# Altium footprint library PcbLib1.PcbLib: 31 footprints (part 1 of 2)
Each footprint in its own frame and in the unit in brackets; x right, y up, seen from the top. Pads: shape width x height; smd on the part's side, far side on the other; paste and mask are expansions set on the pad; w line width, h text height; cw(c..) or ccw(c..) is an arc to the next point about the centre after c.
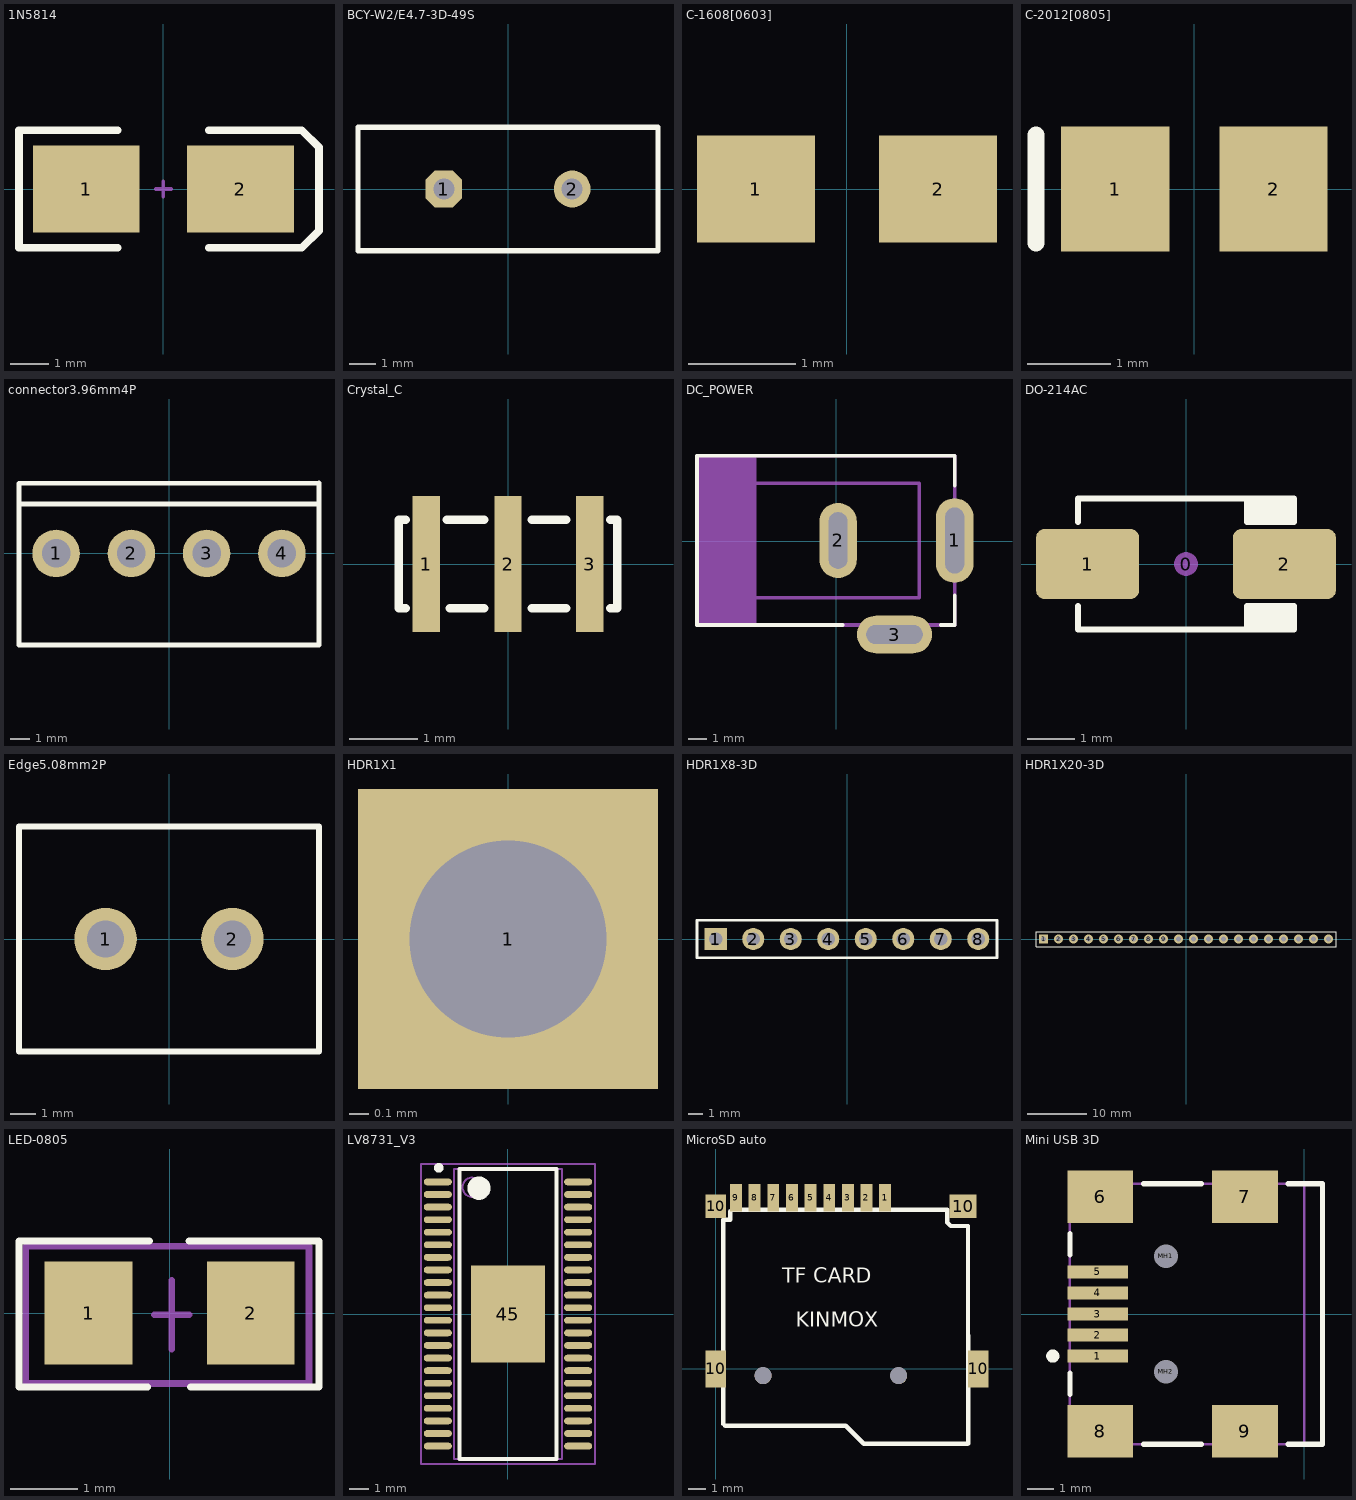
[diagram p0: the footprints below, top view; thin cyan lines are the x and y axes]

## 1N5814 [mm] "DO-214-AA/SMB; 2 C-Bend Leads; Body 5.3 x 3.6 mm, inc. leads (LxW)"
height 2.54
pads (2):
  rect 2.808x2.3 smd: 1(-2.032,0) 2(2.032,0)
Top Overlay:
  lines w0.2: -1.2,-1.55 -3.8,-1.55 -3.8,1.55 -1.2,1.55 ; 1.2,-1.55 3.65,-1.55 4.1,-1.1 4.1,1.1 3.65,1.55 1.2,1.55
Mechanical 1:
  lines w0.1: -0.2,0 0.2,0 ; 0,-0.2 0,0.2

## BCY-W2/E4.7-3D-49S [mm] "Quartz Crystal, Thru-Hole; 2 Leads; Body 11.35 x 4.65 x 13.46 mm (LxWxH max)"
height 13.46
pads (2):
  oct 1.4x1.4 hole 0.8: 1(-2.44,0)
  round 1.4 hole 0.8: 2(2.44,0)
Top Overlay:
  lines w0.2: -5.7,-2.35 -5.7,2.35 5.7,2.35 5.7,-2.35 -5.7,-2.35
3D body: height 3.6, standoff -3, extent -5.461,-2.286 5.519,2.205

## C-1608[0603] [mm] "Chip Capacitor; Body 1.6 x 0.8 mm (LxW typ)"
height 1.35
pads (2):
  rect 1.1x1 smd: 1(-0.85,0) 2(0.85,0)
3D body: height 0.29, standoff -0.01, extent -0.8,-0.419 0.8,0.381

## C-2012[0805] [mm] "Chip Capacitor; Body 2.0 x 1.2 mm (LxW typ)"
height 1.1
pads (2):
  rect 1.3x1.5 smd: 1(-0.95,0) 2(0.95,0)
Top Overlay:
  lines w0.2: -1.9,-0.65 -1.9,0.65
3D body: height 0.78, standoff 0, extent -1,-0.635 1,0.615

## connector3.96mm4P [mm] "白色连接器,wire to board 3.96mm间距4P"
height 14.6
pads (4):
  round 2.5 hole 1.5: 1(-5.94,0) 2(-1.98,0) 3(1.98,0) 4(5.94,0)
Top Overlay:
  lines w0.254: -7.851,2.609 7.737,2.609 ; 7.859,3.691 -7.89,3.691 -7.89,-4.811 7.89,-4.811 7.89,3.7

## Crystal_C [mm] "含电容晶振，村田 3."
height 0.7
pads (3):
  rect 0.4x2 smd: 1(-1.2,0) 2(0,0) 3(1.2,0)
Top Overlay:
  lines w0.127: -1.5,-0.65 -1.6,-0.65 -1.6,0.65 -1.5,0.65 ; -0.9,0.65 -0.35,0.65 ; -0.85,-0.65 -0.35,-0.65 ; 0.35,-0.65 0.85,-0.65 ; 0.35,0.65 0.85,0.65 ; 1.5,-0.65 1.6,-0.65 1.6,0.65 1.5,0.65
3D body: height 0.7, standoff 0, extent -1.6,-0.635 1.6,0.665

## DC_POWER [mm]
pads (3):
  oval 2x4.5 hole 1 slot 3.5 at 90 deg: 1(6.3,0.036)
  oval 2x4 hole 1 slot 3 at 90 deg: 2(0.1,0.036)
  oval 4x2 hole 1 slot 3 at 0 deg: 3(3.1,-4.964)
Top Overlay:
  lines w0.2: 0.347,-4.464 -7.4,-4.464 -7.4,4.536 6.3,4.536 6.3,2.953 ; 5.554,-4.464 6.3,-4.464 6.3,-2.88
Mechanical 7:
  rectangle: -7.402,-4.464 -4.227,4.536
  lines w0.2: -7.4,-3.012 4.411,-3.012 4.411,3.084 -7.4,3.084 ; 0.1,-0.964 0.1,1.036 ; 2.1,-4.964 4.1,-4.964 ; 6.3,-1.164 6.3,1.236 ; -7.4,-4.464 -7.4,4.536 6.3,4.536 6.3,-4.464 5.3,-4.464 -7.4,-4.464
3D body: height 11, standoff -3.5, extent -7.665,-5.171 6.835,4.329

## DO-214AC [mm] "JEDEC DO214 variation AC. SMA"
height 2.5
pads (3):
  round 0.508 on Mech15: 0(0,0)
  rrect25% 2.2x1.5 smd: 1(-2.1,0) 2(2.1,0)
Top Overlay:
  rectangle: 1.3,-1.4 2.3,-0.9
  rectangle: 1.3,0.9 2.3,1.4
  lines w0.127: -2.3,-0.9 -2.3,-1.4 2.3,-1.4 2.3,-0.9 1.3,-0.9 1.3,-1.4 ; -2.3,0.9 -2.3,1.4 2.3,1.4 2.3,0.9 1.3,0.9 ; 1.3,0.911 1.3,1.4
3D body: height 2.42, standoff 0.02, extent -2.6,-1.3 2.6,1.3

## Edge5.08mm2P [mm] "绿色接线端子5.0"
height 8
pads (2):
  round 2.5 hole 1.5: 1(-2.54,0) 2(2.54,0)
Top Overlay:
  lines w0.254: -6,-4.5 -6,4.5 6,4.5 6,-4.5 -6,-4.5

## HDR1X1 [mil]
pads (1):
  rect 60x60 hole 39.37: 1(0,0)

## HDR1X8-3D [mm] "Connector; Header; 8 Position"
pads (8):
  rect 1.5x1.5 hole 0.9: 1(-8.89,0)
  round 1.5 hole 0.9: 2(-6.35,0) 3(-3.81,0) 4(-1.27,0) 5(1.27,0) 6(3.81,0) 7(6.35,0) 8(8.89,0)
Top Overlay:
  lines w0.2: -10.16,-1.27 10.16,-1.27 10.16,1.27 -10.16,1.27 -10.16,-1.27
3D body: height 8.6, standoff -2.94, extent -10.135,-1.27 10.185,1.27

## HDR1X20-3D [mm] "Connector; Header; 20 Position"
pads (20):
  rect 1.5x1.5 hole 0.9: 1(-24.13,0)
  round 1.5 hole 0.9: 2(-21.59,0) 3(-19.05,0) 4(-16.51,0) 5(-13.97,0) 6(-11.43,0) 7(-8.89,0) 8(-6.35,0) 9(-3.81,0) 10(-1.27,0) 11(1.27,0) 12(3.81,0) 13(6.35,0) 14(8.89,0) 15(11.43,0) 16(13.97,0) 17(16.51,0) 18(19.05,0) 19(21.59,0) 20(24.13,0)
Top Overlay:
  lines w0.2: -25.4,-1.27 25.4,-1.27 25.4,1.27 -23.495,1.27 -25.4,1.27 -25.4,-1.27
3D body: height 8.6, standoff -2.94, extent -25.4,-1.27 25.4,1.27

## LED-0805 [mm]
pads (2):
  rect 1.3x1.524 smd: 1(-1.2,0) 2(1.2,0)
Top Overlay:
  lines w0.102: -0.324,-1.092 -2.229,-1.092 -2.229,1.067 -0.298,1.067 ; 0.286,1.067 2.21,1.067 2.21,-1.092 0.311,-1.092
Mechanical 15:
  lines w0.1: -0.222,-0.025 0.286,-0.025 ; 0.032,-0.533 0.032,0.483 ; -2.127,-1.041 -2.127,0.991 2.064,0.991 2.064,-1.041 -2.127,-1.041
3D body: height 1.07, standoff -0.03, extent -1.6,-0.8 1.6,0.8

## LV8731_V3 [mm] "SOP, 44-Leads, Body 15.0x5.6mm (max), Pitch 0.65mm, IPC Medium Density"
height 1.7
pads (45):
  oval 1.45x0.35 smd: 1(-3.625,6.825) 2(-3.625,6.175) 3(-3.625,5.525) 4(-3.625,4.875) 5(-3.625,4.225) 6(-3.625,3.575) 7(-3.625,2.925) 8(-3.625,2.275) 9(-3.625,1.625) 10(-3.625,0.975) 11(-3.625,0.325) 12(-3.625,-0.325) 13(-3.625,-0.975) 14(-3.625,-1.625) 15(-3.625,-2.275) 16(-3.625,-2.925) 17(-3.625,-3.575) 18(-3.625,-4.225) 19(-3.625,-4.875) 20(-3.625,-5.525) 21(-3.625,-6.175) 22(-3.625,-6.825) 23(3.625,-6.825) 24(3.625,-6.175) 25(3.625,-5.525) 26(3.625,-4.875) 27(3.625,-4.225) 28(3.625,-3.575) 29(3.625,-2.925) 30(3.625,-2.275) 31(3.625,-1.625) 32(3.625,-0.975) 33(3.625,-0.325) 34(3.625,0.325) 35(3.625,0.975) 36(3.625,1.625) 37(3.625,2.275) 38(3.625,2.925) 39(3.625,3.575) 40(3.625,4.225) 41(3.625,4.875) 42(3.625,5.525) 43(3.625,6.175) 44(3.625,6.825)
  rect 3.8x5 smd: 45(0,0)
Top Overlay:
  circle w0.25: c-3.575,7.55 r0.125
  circle w0.6: c-1.5,6.5 r0.3
  lines w0.2: -2.5,-7.5 -2.5,7.5 2.5,7.5 2.5,-7.5 -2.5,-7.5
Mechanical 13:
  circle w0.1: c-1.85,6.55 r0.5
  lines w0.1: -2.8,-7.5 -2.8,7.5 2.8,7.5 2.8,-7.5 -2.8,-7.5
Mechanical 15:
  lines w0.1: -0.5,0 0.5,0 ; 0,-0.5 0,0.5 ; -4.5,-7.75 -4.5,7.75 4.5,7.75 4.5,-7.75 -4.5,-7.75
3D body: height 1.7, standoff 0.2, extent -2.8,-7.5 2.8,7.5

## MicroSD auto [mm] "TF 自弹"
pads (15):
  rect 0.7x1.6 smd: 1(10,10.1) 2(8.9,10.1) 3(7.8,10.1) 4(6.7,10.1) 5(5.6,10.1) 6(4.5,10.1) 7(3.4,10.1) 8(2.3,10.1) 9(1.2,10.1)
  rect 1.2x2.2 smd: 10(0,0) 10(15.5,0)
  rect 1.2x1.4 smd: 10(0,9.6)
  rect 1.6x1.4 smd: 10(14.6,9.6)
  round 1 hole 1: ""(2.8,-0.4) ""(10.8,-0.4)
Top Overlay:
  lines w0.254: 14.88,-4.42 8.738,-4.42 7.671,-3.353 0.559,-3.353 0.457,-3.251 0.457,8.793 0.864,8.793 0.864,9.296 0.965,9.398 13.665,9.398 13.665,8.636 13.868,8.433 14.884,8.433 14.9,-4.4
  text "KINMOX" at 4.724,2.489 h0.89
  text "TF CARD" at 3.937,5.08 h0.89
3D body: height 1.85, standoff -0.6, extent -0.38,-4.191 15.62,11.059

## Mini USB 3D [mm] "Connector; USB2.0, Type B, SM; 5 Position; Right Angle"
height 3.9
pads (11):
  rect 2.3x0.5 smd: 1(-7.85,-1.6) 2(-7.85,-0.8) 3(-7.85,0) 4(-7.85,0.8) 5(-7.85,1.6)
  rect 2.5x2 smd: 6(-7.75,4.45) 7(-2.25,4.45) 8(-7.75,-4.45) 9(-2.25,-4.45)
  round 0.6 hole 0.9 unplated: MH1(-5.25,2.2) MH2(-5.25,-2.2)
Top Overlay:
  circle w0.25: c-9.55,-1.6 r0.125
  lines w0.2: -8.9,-3.05 -8.9,-2.25 ; -8.9,2.25 -8.9,3.05 ; -6.1,-4.95 -3.9,-4.95 ; -6.1,4.95 -3.9,4.95 ; -0.6,-4.95 0.7,-4.95 0.7,4.95 -0.6,4.95
Mechanical 1:
  lines w0.1: 0,-4.95 0,4.95
  text "PCB Edge" at 0.432,-4.036 h0.76
Mechanical 13:
  lines w0.1: -8.9,-4.95 0.7,-4.95 0.7,4.95 -8.9,4.95 -8.9,-4.95
3D body: height 3.93, standoff -1, extent -8.488,-5.077 0.762,4.823